# Altium schematic symbol library SWITCH_DPDT.SchLib: 1 symbol
Pins are listed as number, name and electrical type; pins without a type are passive.

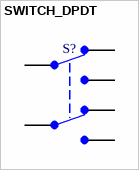
[diagram p0: symbol SWITCH_DPDT]

## SWITCH_DPDT
designator S?  (value not drawn)
pins: 1, 2, 3, 4, 5, 6